# Altium schematic symbol library DS4432U+T&R.SchLib: 1 symbol
Pins are listed as number, name and electrical type; pins without a type are passive.

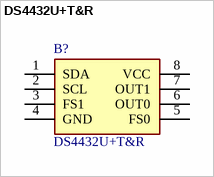
[diagram p0: symbol DS4432U+T&R]

## DS4432U+T&R
designator B?
MAXIM INTEGRATED PRODUCTS - DS4432U+T&R - Digital to Analogue Converter, 7 bit, I2C, Serial, 2.7V to 5.5V, SOP, 8 Pins; Manufacturer_Name: Analog Devices; Geometry.Height: 1.1mm; Mouser Part Number: 700-DS4432UT&R; Mouser Price/Stock: https://www.mouser.co.uk/ProductDetail/Maxim-Integrated/DS4432U%2bTR?qs=wTZ%2FFzl837aX6EFuE2M5uA%3D%3D; Manufacturer_Part_Number: DS4432U+T&R; Datasheet Link: https://pdfserv.maximintegrated.com/en/ds/DS4432.pdf
footprint SOP65P490X110-8N
pins: 1 SDA, 2 SCL, 3 FS1, 4 GND, 5 FS0, 6 OUT0, 7 OUT1, 8 VCC